# EAGLE library part DSUB_13W6 (library DSDEagleLibrary)
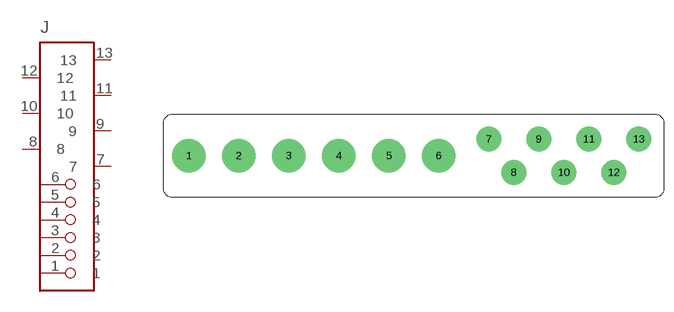
[diagram p31: symbol with the pads of DSUB_13W6; footprint DSUB_13W6]

Designator prefix J

## DSUB_13W6  [DSUB_13W6]
1  1
2  2
3  3
4  4
5  5
6  6
7  7
8  8
9  9
10  10
11  11
12  12
13  13

## Footprint DSUB_13W6 (pad centres in mm)
drill 3.277 pad 5.08: 1 0,0; 2 7.62,0; 3 15.24,0; 4 22.86,0; 5 30.48,0; 6 38.1,0
drill 2.54 pad 3.81: 7 45.72,2.54; 8 49.53,-2.54; 9 53.34,2.54; 10 57.15,-2.54; 11 60.96,2.54; 12 64.77,-2.54; 13 68.58,2.54